# EAGLE library part NORDIC_NRF24L01 (library P442)
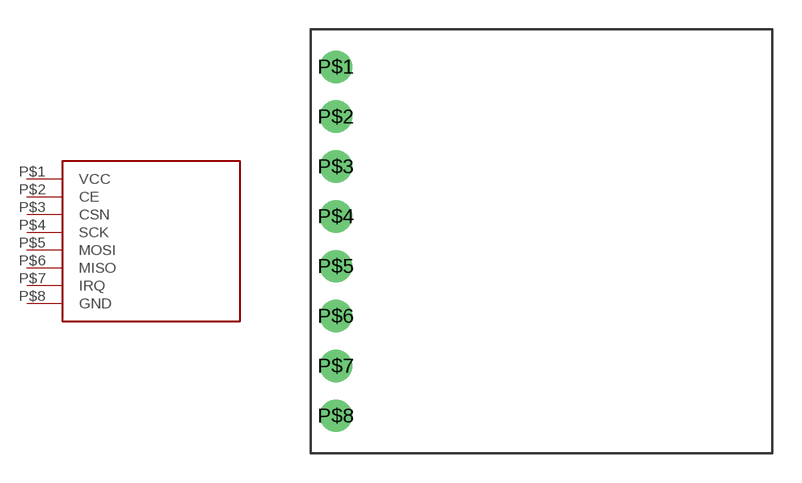
[diagram p9: symbol with the pads of NORDIC_NRF24L01; footprint NORDIC_NRF24L01]

Designator prefix -

## NORDIC_NRF24L01  [NORDIC_NRF24L01]
P$1  VCC
P$2  CE
P$3  CSN
P$4  SCK
P$5  MOSI
P$6  MISO
P$7  IRQ
P$8  GND

## Footprint NORDIC_NRF24L01 (pad centres in mm)
drill 1.1: P$1 -5.08,2.54; P$2 -5.08,0; P$3 -5.08,-2.54; P$4 -5.08,-5.08; P$5 -5.08,-7.62; P$6 -5.08,-10.16; P$7 -5.08,-12.7; P$8 -5.08,-15.24